# Altium schematic symbol library Hirose.SchLib: 2 symbols
Pins are listed as number, name and electrical type; pins without a type are passive.

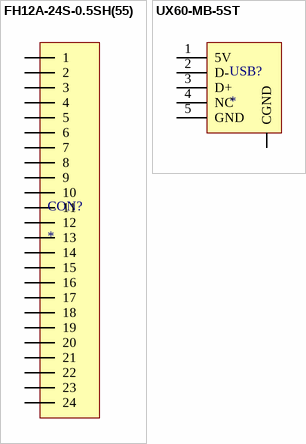
[diagram p0: symbols FH12A-24S-0.5SH(55) to UX60-MB-5ST]

## FH12A-24S-0.5SH(55)
designator CON?
0.5mm Pitch Connectors For Ribbon Cable
footprint FH12A-24S-0.5SH(55) (Ribbon Cable Connector 24 Pin)
pins: 1, 2, 3, 4, 5, 6, 7, 8, 9, 10, 11, 12, 13, 14, 15, 16, 17, 18, 19, 20, 21, 22, 23, 24

## UX60-MB-5ST
designator USB?
miniUSB Type B SMT Connector
footprint UX60-MB-5ST (miniUSB Type B Connector - Metal Shield SMT With Positioning Post)
pins: 1 5V, 2 D-, 3 D+, 4 NC, 5 GND, CGND